# EAGLE library part ESP-12F (library ESP8266)
ESP-12F module (device) for EAGLE PCB This package defines pads for all of the module's pins: 1 = RESET 2 = ADC 3 = EN 4 = GPIO16 5 = GPIO14 6 = GPIO12 7 = GPIO13 8 = VCC 9 = GND 10 = GPIO15 11 = GPIO2 12 = GPIO0 13 = GPIO4 14 = GPIO5 15 = RXD0 16 = TXD0 17 = CS0 18 = MISO 19 = GPIO9 20 = GPIO10 21 = MOSI 22 = SCLK Use at your own risk. Author: Richard Hornbaker Please submit edits via the Github repo: https://github.com/RichardFoo/ESP8266-Eagle
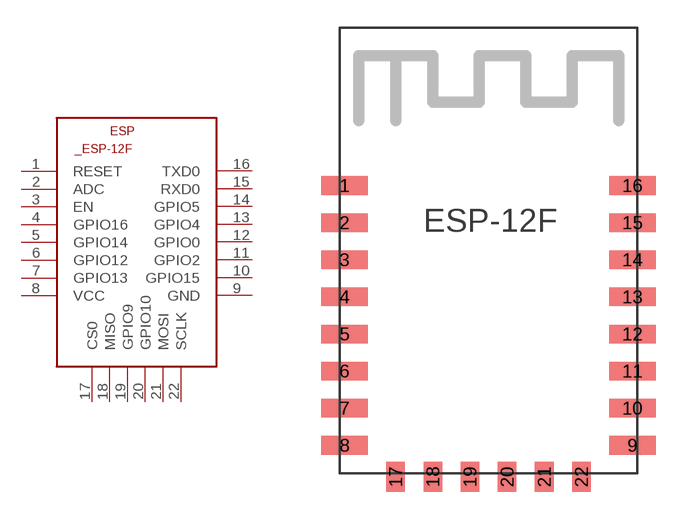
[diagram p0: symbol with the pads of ESP-12F; footprint ESP-12F]

Designator prefix ESP

## ESP-12FESP-12F  [ESP-12F]
1  RESET  in
2  ADC
3  EN
4  GPIO16
5  GPIO14
6  GPIO12
7  GPIO13
8  VCC  pwr
9  GND  pwr
10  GPIO15
11  GPIO2
12  GPIO0
13  GPIO4
14  GPIO5
15  RXD0
16  TXD0
17  CS0
18  MISO
19  GPIO9
20  GPIO10
21  MOSI
22  SCLK

## Footprint ESP-12F (pad centres in mm)
ESP-12F module (package) for EAGLE PCB This package defines pads for all of the module's pins: 1 = RESET 2 = ADC 3 = EN 4 = GPIO16 5 = GPIO14 6 = GPIO12 7 = GPIO13 8 = VCC 9 = GND 10 = GPIO15 11 = GPIO2 12 = GPIO0 13 = GPIO4 14 = GPIO5 15 = RXD0 16 = TXD0 17 = CS0 18 = MISO 19 = GPIO9 20 = GPIO10 21 = MOSI 22 = SCLK Use at your own risk. Author: Richard Hornbaker Please submit edits via the Github repo: https://github.com/RichardFoo/ESP8266-Eagle
smd 2.5 x 1: 1 -7.75,3.5; 2 -7.75,1.5; 3 -7.75,-0.5; 4 -7.75,-2.5; 5 -7.75,-4.5; 6 -7.75,-6.5; 7 -7.75,-8.5; 8 -7.75,-10.5; 9 7.75,-10.5; 10 7.75,-8.5; 11 7.75,-6.5; 12 7.75,-4.5; 13 7.75,-2.5; 14 7.75,-0.5; 15 7.75,1.5; 16 7.75,3.5
smd 1 x 1.6: 17 -5,-12.2; 18 -3,-12.2; 19 -1,-12.2; 20 1,-12.2; 21 3,-12.2; 22 5,-12.2